# Altium integrated library Components - 23.04.26 - 19.27.IntLib: 1 symbol
Pins are listed as number, name and electrical type; pins without a type are passive.

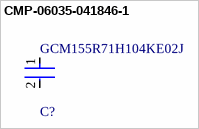
[diagram p0: symbol CMP-06035-041846-1]

## CMP-06035-041846-1
designator C?, comment GCM155R71H104KE02J
Ceramic Capacitor for Automotive 100nF ±10% 50VDC X7R 0402 Paper T/R; Voltage Rating (DC): 50V; Case Code (Metric): 1005; Dielectric: X7R; Capacitance: 100nF; Packaging: Tape and Reel; Min Operating Temperature: -55°C; Length: 0.039inch; Thickness: 0.022inch; Height: 0.5mm; Mount: Surface Mount; Termination: SMD/SMT; Voltage Rating: 50V; Package Quantity: 50000; Width: 0.02inch; Case/Package: 0402; Case Code (Imperial): 0402; Ratings: AEC-Q200; Max Operating Temperature: 125°C; Tolerance: 10%; Weight: 0.000212oz
footprint FP-GCM155-0_05-MFG
footprint FP-GCM155-0_05-IPC_C
footprint FP-GCM155-0_05-IPC_A
footprint FP-GCM155-0_05-IPC_B
pins: 1, 2